# Altium footprint library Wurth_Elektronik_Passive_rev16a.PCBLIB: 810 footprints (part 6 of 51)
Each footprint in its own frame and in the unit in brackets; x right, y up, seen from the top. Pads: shape width x height; smd on the part's side, far side on the other; paste and mask are expansions set on the pad; w line width, h text height; cw(c..) or ccw(c..) is an arc to the next point about the centre after c.
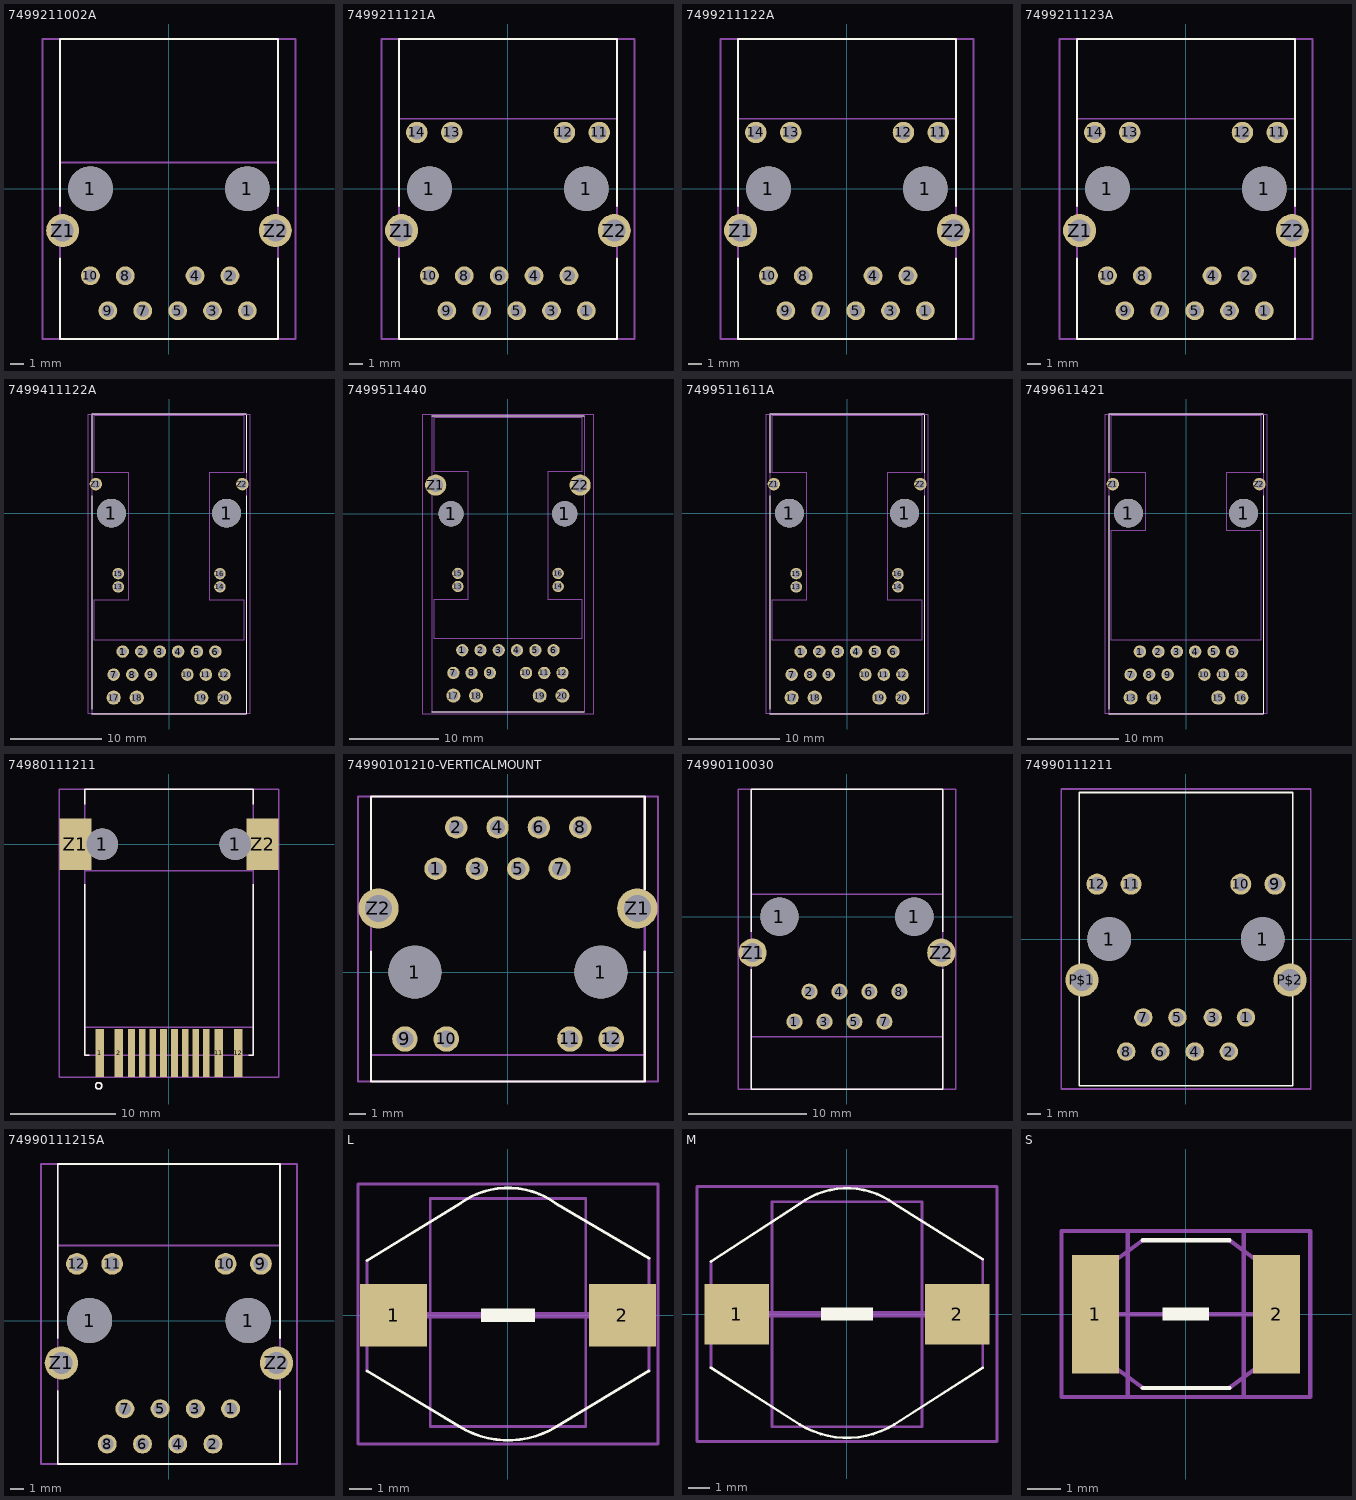
[diagram p5: the footprints below, top view; thin cyan lines are the x and y axes]

## 7499211002A [mil]
pads (13):
  round 128 hole 128: 1(-225,0) 1(225,0)
  round 54 hole 36: 1(225,-350) 2(175,-250) 3(125,-350) 4(75,-250) 5(25,-350) 7(-75,-350) 8(-125,-250) 9(-175,-350) 10(-225,-250)
  round 94.5 hole 63: Z1(-304.72,-120.08) Z2(305,-120.08)
Top Overlay:
  lines w5: -312.6,-200 -312.6,-431.1 313,-431.1 313,-200 ; -312.6,-50 -312.6,429 313,429 313,-50
Mechanical 2:
  text ">NAME" at -151.92,487 h77.5
Mechanical 4:
  text ">VALUE" at -101.92,-510.57 h77.5
Mechanical 10:
  lines w5: -312.6,75 -312.6,429 313,429 313,75 -312.6,75
Mechanical 16:
  lines w5: -312.6,-431.1 -312.6,429 313,429 313,-431.1 -312.6,-431.1
  text "1" at 275,-325 h49.6
  text "10" at -300,-225 h49.6
Mechanical 27:
  lines w5: -362.5,-431.1 363,-431.1 363,429 -362.5,429 -362.5,-431.1

## 7499211121A [mil]
pads (18):
  round 128 hole 128: 1(-225,0) 1(225,0)
  round 54 hole 36: 1(225,-350) 2(175,-250) 3(125,-350) 4(75,-250) 5(25,-350) 6(-25,-250) 7(-75,-350) 8(-125,-250) 9(-175,-350) 10(-225,-250)
  round 61.5 hole 41: 11(262,161) 12(162,161) 13(-161.02,161) 14(-261.02,161)
  round 94.5 hole 63: Z1(-304.92,-120.08) Z2(305,-120.08)
Top Overlay:
  lines w5: -312.6,-200 -312.6,-431.1 313,-431.1 313,-200 ; -312.6,-50 -312.6,429 313,429 313,-50
Mechanical 2:
  text ">NAME" at -151.92,487 h77.5
Mechanical 4:
  text ">VALUE" at -101.92,-510.57 h77.5
Mechanical 10:
  lines w5: -312.6,200 -312.6,429 313,429 313,200 -312.6,200
Mechanical 16:
  lines w5: -312.6,-431.1 -312.6,429 313,429 313,-431.1 -312.6,-431.1
  text "1" at 250,-325 h49.6
  text "10" at -300,-225 h49.6
Mechanical 27:
  lines w5: -362.5,-431.1 363,-431.1 363,429 -362.5,429 -362.5,-431.1

## 7499211122A [mil]
pads (17):
  round 128 hole 128: 1(-225,0) 1(225,0)
  round 54 hole 36: 1(225,-350) 2(175,-250) 3(125,-350) 4(75,-250) 5(25,-350) 7(-75,-350) 8(-125,-250) 9(-175,-350) 10(-225,-250)
  round 61.5 hole 41: 11(262,161) 12(162,161) 13(-161.02,161) 14(-261.02,161)
  round 94.5 hole 63: Z1(-304.92,-120.08) Z2(305,-120.08)
Top Overlay:
  lines w5: -312.6,-200 -312.6,-431.1 313,-431.1 313,-200 ; -312.6,-50 -312.6,429 313,429 313,-50
Mechanical 2:
  text ">NAME" at -151.92,487 h77.5
Mechanical 4:
  text ">VALUE" at -101.92,-510.57 h77.5
Mechanical 10:
  lines w5: -312.6,200 -312.6,429 313,429 313,200 -312.6,200
Mechanical 16:
  lines w5: -312.6,-431.1 -312.6,429 313,429 313,-431.1 -312.6,-431.1
  text "1" at 250,-325 h49.6
  text "10" at -300,-225 h49.6
Mechanical 27:
  lines w5: -362.5,-431.1 363,-431.1 363,429 -362.5,429 -362.5,-431.1

## 7499211123A [mil]
pads (17):
  round 128 hole 128: 1(-225,0) 1(225,0)
  round 54 hole 36: 1(225,-350) 2(175,-250) 3(125,-350) 4(75,-250) 5(25,-350) 7(-75,-350) 8(-125,-250) 9(-175,-350) 10(-225,-250)
  round 61.5 hole 41: 11(262,161) 12(162,161) 13(-161.02,161) 14(-261.02,161)
  round 94.5 hole 63: Z1(-304.92,-120.08) Z2(305,-120.08)
Top Overlay:
  lines w5: -312.6,-200 -312.6,-431.1 313,-431.1 313,-200 ; -312.6,-50 -312.6,429 313,429 313,-50
Mechanical 2:
  text ">NAME" at -151.92,487 h77.5
Mechanical 4:
  text ">VALUE" at -101.92,-510.57 h77.5
Mechanical 10:
  lines w5: -312.6,200 -312.6,429 313,429 313,200 -312.6,200
Mechanical 16:
  lines w5: -312.6,-431.1 -312.6,429 313,429 313,-431.1 -312.6,-431.1
  text "1" at 250,-325 h49.6
  text "10" at -300,-225 h49.6
Mechanical 27:
  lines w5: -362.5,-431.1 363,-431.1 363,429 -362.5,429 -362.5,-431.1

## 7499411122A [mil]
pads (24):
  round 125 hole 125: 1(-250,0) 1(250,0)
  round 54 hole 36: 1(-200.59,-600) 2(-120.28,-600) 3(-39.96,-600) 4(40,-600) 5(121,-600) 6(201,-600) 7(-239.76,-700) 8(-159.45,-700) 9(-79.13,-700) 10(80,-700) 11(160,-700) 12(240,-700) Z1(-317.52,126) Z2(318,126)
  round 50 hole 36: 13(-220.08,-319.69) 14(221,-319.69) 15(-220.08,-262.2) 16(221,-262.2)
  round 61.5 hole 41: 17(-239.96,-800) 18(-139.96,-800) 19(140,-800) 20(240,-800)
Top Overlay:
  lines w5: -334.65,-870.87 335,-870.87 335,75 ; -334.65,-850 -334.65,75 ; -334.65,175 -334.65,425 ; -334.65,430 335,430 ; 335,175 335,425
Mechanical 2:
  text ">NAME" at -104.33,438 h77.5
Mechanical 4:
  text ">VALUE" at -104.33,-961.09 h77.5
Mechanical 10:
  lines w5: -325,-550 325,-550 325,-375 175,-375 175,175 325,175 325,425 -325,425 -325,175 -175,175 -175,-375 -325,-375 -325,-550
Mechanical 16:
  lines w5: -334.65,-870.87 -334.65,430 335,430 335,-870.87 -334.65,-870.87
  text "1" at -250,-575 h62
  text "6" at 250,-575 h62
  text "7" at -275,-650 h62
  text "12" at 300,-650 h62
  text "15" at -275,-200 h62
  text "16" at 275,-225 h62
Mechanical 27:
  lines w5: -350,-870.87 350,-870.87 350,430 -350,430 -350,-870.87

## 7499511440 [mil]
pads (24):
  round 111 hole 111: 1(-250,0) 1(250,0)
  round 54 hole 36: 1(-200.59,-600) 2(-120.28,-600) 3(-39.96,-600) 4(40,-600) 5(121,-600) 6(201,-600) 7(-239.76,-700) 8(-159.45,-700) 9(-79.13,-700) 10(80,-700) 11(160,-700) 12(240,-700)
  round 50 hole 36: 13(-220.08,-319.69) 14(221,-319.69) 15(-220.08,-262.2) 16(221,-262.2)
  round 61.5 hole 41: 17(-239.96,-800) 18(-139.96,-800) 19(140,-800) 20(240,-800)
  round 93 hole 62: Z1(-317.52,126) Z2(318,126)
Top Overlay:
  lines w5: -334.65,-870.87 335,-870.87 ; -334.65,430 335,430
Mechanical 2:
  text ">NAME" at -104.33,458 h77.5
Mechanical 4:
  text ">VALUE" at -104.33,-941.41 h77.5
Mechanical 10:
  lines w5: -325,-550 325,-550 325,-375 175,-375 175,186 325,186 325,425 -325,425 -325,186 -175,186 -175,-375 -325,-375 -325,-550
Mechanical 16:
  lines w5: -334.65,-850 -334.65,75 ; -334.65,175 -334.65,425 ; 335,75 335,-870.87 ; 335,175 335,425 ; 335,-870.87 335,430 -334.65,430 -334.65,-870.87 335,-870.87
  text "1" at -250,-575 h62
  text "6" at 250,-575 h62
  text "7" at -275,-650 h62
  text "12" at 300,-650 h62
  text "15" at -275,-200 h62
  text "16" at 275,-225 h62
Mechanical 27:
  lines w5: -374.02,-880.71 375,-880.71 375,439 -374.02,439 -374.02,-880.71

## 7499511611A [mil]
pads (24):
  round 125 hole 125: 1(-250,0) 1(250,0)
  round 54 hole 36: 1(-200.59,-600) 2(-120.28,-600) 3(-39.96,-600) 4(40,-600) 5(121,-600) 6(201,-600) 7(-239.76,-700) 8(-159.45,-700) 9(-79.13,-700) 10(80,-700) 11(160,-700) 12(240,-700) Z1(-317.52,126) Z2(318,126)
  round 50 hole 36: 13(-220.08,-319.69) 14(221,-319.69) 15(-220.08,-262.2) 16(221,-262.2)
  round 61.5 hole 41: 17(-239.96,-800) 18(-139.96,-800) 19(140,-800) 20(240,-800)
Top Overlay:
  lines w5: -334.65,-870.87 335,-870.87 335,75 ; -334.65,-850 -334.65,75 ; -334.65,175 -334.65,425 ; -334.65,430 335,430 ; 335,175 335,425
Mechanical 2:
  text ">NAME" at -104.33,438 h77.5
Mechanical 4:
  text ">VALUE" at -104.33,-961.09 h77.5
Mechanical 10:
  lines w5: -325,-550 325,-550 325,-375 175,-375 175,175 325,175 325,425 -325,425 -325,175 -175,175 -175,-375 -325,-375 -325,-550
Mechanical 16:
  lines w5: -334.65,-870.87 -334.65,430 335,430 335,-870.87 -334.65,-870.87
  text "1" at -250,-575 h62
  text "6" at 250,-575 h62
  text "7" at -275,-650 h62
  text "12" at 300,-650 h62
  text "15" at -275,-200 h62
  text "16" at 275,-225 h62
Mechanical 27:
  lines w5: -350,-870.87 350,-870.87 350,430 -350,430 -350,-870.87

## 7499611421 [mil]
pads (20):
  round 125 hole 125: 1(-250,0) 1(250,0)
  round 54 hole 36: 1(-199.8,-600) 2(-119.88,-600) 3(-39.96,-600) 4(40,-600) 5(120,-600) 6(200,-600) 7(-239.96,-700) 8(-159.65,-700) 9(-79.72,-700) 10(80,-700) 11(160,-700) 12(240,-700) Z1(-317.52,126) Z2(318,126)
  round 61.5 hole 41: 13(-239.76,-800) 14(-139.76,-800) 15(140,-800) 16(240,-800)
Top Overlay:
  lines w5: -334.65,-870.87 335,-870.87 335,75 ; -334.65,-850 -334.65,75 ; -334.65,175 -334.65,425 ; -334.65,430 335,430 ; 335,175 335,425
Mechanical 2:
  text ">NAME" at -104.33,438 h77.5
Mechanical 4:
  text ">VALUE" at -104.33,-961.09 h77.5
Mechanical 10:
  lines w5: -325,-550 325,-550 325,-75 175,-75 175,175 325,175 325,425 -325,425 -325,175 -175,175 -175,-75 -325,-75 -325,-550
Mechanical 16:
  lines w5: -334.65,-870.87 -334.65,430 335,430 335,-870.87 -334.65,-870.87
  text "1" at -250,-575 h62
  text "6" at 250,-575 h62
  text "7" at -275,-650 h62
  text "12" at 300,-650 h62
Mechanical 27:
  lines w5: -350,-870.87 350,-870.87 350,430 -350,430 -350,-870.87

## 74980111211 [mil]
pads (16):
  rect 32x182 smd: 1(-260.24,-784.25) 2(-187.8,-784.25) 11(188,-784.25) 12(261,-784.25)
  round 119 hole 119: 1(-250,0) 1(250,0)
  rect 25x182 smd: 3(-140.55,-784.25) 4(-100.39,-784.25) 5(-60.24,-784.25) 6(-20.08,-784.25) 7(21,-784.25) 8(61,-784.25) 9(101,-784.25) 10(141,-784.25)
  rect 119x193 smd: Z1(-351.18,0) Z2(352,0)
Top Overlay:
  circle w5: c-263.78,-907.48 r12
  lines w5: -316.93,-150 -316.93,-792.13 -300,-792.13 ; -316.93,150 -316.93,208 317,208 317,150 ; 300,-792.13 317,-792.13 317,-150
Mechanical 2:
  text ">NAME" at -148.28,216 h77.5
Mechanical 4:
  text ">VALUE" at -98.28,-950.62 h77.5
Mechanical 10:
  lines w5: -316.93,-687.5 317,-687.5 317,-100 -316.93,-100 -316.93,-687.5
Mechanical 16:
  circle w5: c-263.78,-907.48 r12
  lines w5: -316.93,-792.13 -316.93,208 317,208 317,-792.13 -316.93,-792.13
Mechanical 27:
  lines w5: -412.5,-875 413,-875 413,208 -412.5,208 -412.5,-875

## 74990101210-VERTICALMOUNT [mil]
pads (16):
  round 128 hole 128: 1(-225,0) 1(225,0)
  round 54 hole 36: 1(-175,250) 2(-125,350) 3(-75,250) 4(-25,350) 5(25,250) 6(75,350) 7(125,250) 8(175,350)
  round 61.5 hole 41: 9(-249.02,-161.81) 10(-149.02,-161.81) 11(150,-161.81) 12(250,-161.81)
  round 97.5 hole 65: Z1(313,154) Z2(-312.99,154)
Top Overlay:
  lines w5: -330.71,50 -330.71,-264.96 331,-264.96 331,50 ; -330.71,200 -330.71,425 331,425 331,200
Mechanical 2:
  text ">NAME" at -31.56,-336.37 h77.5
Mechanical 4:
  text ">VALUE" at 19,461 h77.5
Mechanical 10:
  lines w5: -330.71,-264.96 331,-264.96 331,-200 -330.71,-200 -330.71,-264.96
Mechanical 16:
  lines w5: -330.71,-264.96 331,-264.96 331,425 -330.71,425 -330.71,-264.96
  text "1" at -225,250 h49.6
  text "8" at 250,375 h49.6
Mechanical 27:
  lines w5: -362.5,-264.96 363,-264.96 363,425 -362.5,425 -362.5,-264.96

## 74990110030 [mil]
pads (12):
  round 128 hole 128: 1(-225,0) 1(225,0)
  round 54 hole 36: 1(-175,-350) 2(-125,-250) 3(-75,-350) 4(-25,-250) 5(25,-350) 6(75,-250) 7(125,-350) 8(175,-250)
  round 94.5 hole 63: Z1(-314.96,-120.08) Z2(315,-120.08)
Top Overlay:
  lines w5: -319.88,-175 -319.88,-574.8 320,-574.8 320,-175 ; -319.88,-50 -319.88,426 320,426 320,-50
Mechanical 2:
  text ">NAME" at -18.44,487 h77.5
Mechanical 4:
  text ">VALUE" at -18.44,-660.57 h77.5
Mechanical 10:
  lines w5: -319.88,-574.8 320,-574.8 320,-400 -319.88,-400 -319.88,-574.8 ; -318.9,75 319,75 319,425 -318.9,425 -318.9,75
Mechanical 16:
  lines w5: -319.88,-574.8 -319.88,426 320,426 320,-574.8 -319.88,-574.8
  text "1" at -225,-350 h49.6
  text "8" at 250,-225 h49.6
Mechanical 27:
  lines w5: -362.5,-574.8 363,-574.8 363,425 -362.5,425 -362.5,-574.8

## 74990111211 [mil]
pads (16):
  round 128 hole 128: 1(-225,0) 1(225,0)
  round 54 hole 36: 1(176,-229.92) 2(126,-329.92) 3(79,-229.92) 4(26,-329.92) 5(-24.8,-229.92) 6(-74.8,-329.92) 7(-124.8,-229.92) 8(-174.8,-329.92)
  round 61.5 hole 41: 9(261,161) 10(161,161) 11(-160.83,161) 12(-260.83,161)
  round 97.5 hole 65: P$1(-304.92,-120.08) P$2(305,-120.08)
Top Overlay:
  lines w5: -312.6,-429.92 -312.6,430 313,430 313,-429.92 -312.6,-429.92
Mechanical 2:
  text ">NAME" at -350,500 h77.5
Mechanical 4:
  text ">VALUE" at -350,-539.37 h77.5
Mechanical 27:
  lines w5: -365.35,-439.76 -365.35,440 366,440 366,-439.76 -365.35,-439.76

## 74990111215A [mil]
pads (16):
  round 128 hole 128: 1(-225,0) 1(225,0)
  round 54 hole 36: 1(175,-250) 2(125,-350) 3(75,-250) 4(25,-350) 5(-25,-250) 6(-75,-350) 7(-125,-250) 8(-175,-350)
  round 61.5 hole 41: 9(261,161) 10(161,161) 11(-160.83,161) 12(-260.83,161)
  round 94.5 hole 63: Z1(-304.92,-120.08) Z2(305,-120.08)
Top Overlay:
  lines w5: -314.96,-200 -314.96,-406.69 315,-406.69 315,-200 ; -314.96,-50 -314.96,444 315,444 315,-50
Mechanical 2:
  text ">NAME" at -18.44,487 h77.5
Mechanical 4:
  text ">VALUE" at -18.44,-460.57 h77.5
Mechanical 10:
  lines w5: -314.96,213 -314.96,444 315,444 315,213 -314.96,213
Mechanical 16:
  lines w5: -314.96,-406.69 315,-406.69 315,444 -314.96,444 -314.96,-406.69
  text "1" at 250,-225 h49.6
  text "8" at -225,-350 h49.6
Mechanical 27:
  lines w5: -362.5,-406.69 363,-406.69 363,444 -362.5,444 -362.5,-406.69

## L [mil]
pads (2):
  rect 119x111 smd: 1(-202.76,0) 2(203,0)
Top Overlay:
  region: 47.72,-11.53 47.72,12.28 -47.53,12.28 -47.53,-11.53
  lines w5: -250,-98.43 -86.61,-196.85 ccw(c0.19,-56.22) 87,-196.85 250,-98.43 ; -250,97 -86.61,197 cw(c0.19,80.6) 87,197 250,101
Mechanical 2:
  text ">NAME" at -287.5,-287.5 h77.5
Mechanical 4:
  text ">VALUE" at -312.5,263 h77.5
Mechanical 10:
  lines w5: -137.8,-196.85 -137.8,207 138,207 138,-196.85 -137.8,-196.85
Mechanical 16:
  lines w5: -250,-98.43 -250,97 ; 250,-98.43 250,101
  lines w12: -202.76,0 203,0
Mechanical 27:
  lines w5: -265.75,-228.35 -265.75,233 266,233 266,-228.35 -265.75,-228.35

## M [mil]
pads (2):
  rect 119x111 smd: 1(-202.76,0) 2(203,0)
Top Overlay:
  region: 47.72,-11.53 47.72,12.28 -47.53,12.28 -47.53,-11.53
  lines w5: -250,-98.43 -86.61,-202.76 ccw(c0.19,-62.13) 87,-202.76 250,-98.43 ; -250,97 -86.61,203 cw(c0.19,86.6) 87,203 250,101
Mechanical 2:
  text ">NAME" at -275,-312.5 h77.5
Mechanical 4:
  text ">VALUE" at -287.5,263 h77.5
Mechanical 10:
  lines w5: -137.8,-206.69 -137.8,207 138,207 138,-206.69 -137.8,-206.69
Mechanical 16:
  lines w5: -250,-98.43 -250,97 ; 250,-98.43 250,101
  lines w12: -202.76,0 203,0
Mechanical 27:
  lines w5: -275.59,-234.25 -275.59,235 276,235 276,-234.25 -275.59,-234.25

## S [mil]
pads (2):
  rect 56x141 smd: 1(-107.48,0) 2(108,0)
Top Overlay:
  region: 27.84,-7.72 27.84,8.16 -27.72,8.16 -27.72,-7.72
  lines w5: -51.18,-87.6 52,-87.6 ; -51.18,88 52,88
Mechanical 2:
  text ">NAME" at -137.5,-162.5 h77.5
Mechanical 4:
  text ">VALUE" at -137.5,113 h77.5
Mechanical 10:
  lines w5: -68.9,-98.43 -68.9,99 69,99 69,-98.43 -68.9,-98.43
Mechanical 16:
  lines w5: -107.48,0 108,0 ; -51.18,-87.6 -129.92,-29.53 -129.92,30 -51.18,88 ; 52,-87.6 130,-29.53 130,30 52,88
Mechanical 27:
  lines w5: -147.64,-98.43 -147.64,99 148,99 148,-98.43 -147.64,-98.43